# Altium footprint library SebastianAltiumClass.PcbLib: 8 footprints
Each footprint in its own frame and in the unit in brackets; x right, y up, seen from the top. Pads: shape width x height; smd on the part's side, far side on the other; paste and mask are expansions set on the pad; w line width, h text height; cw(c..) or ccw(c..) is an arc to the next point about the centre after c.
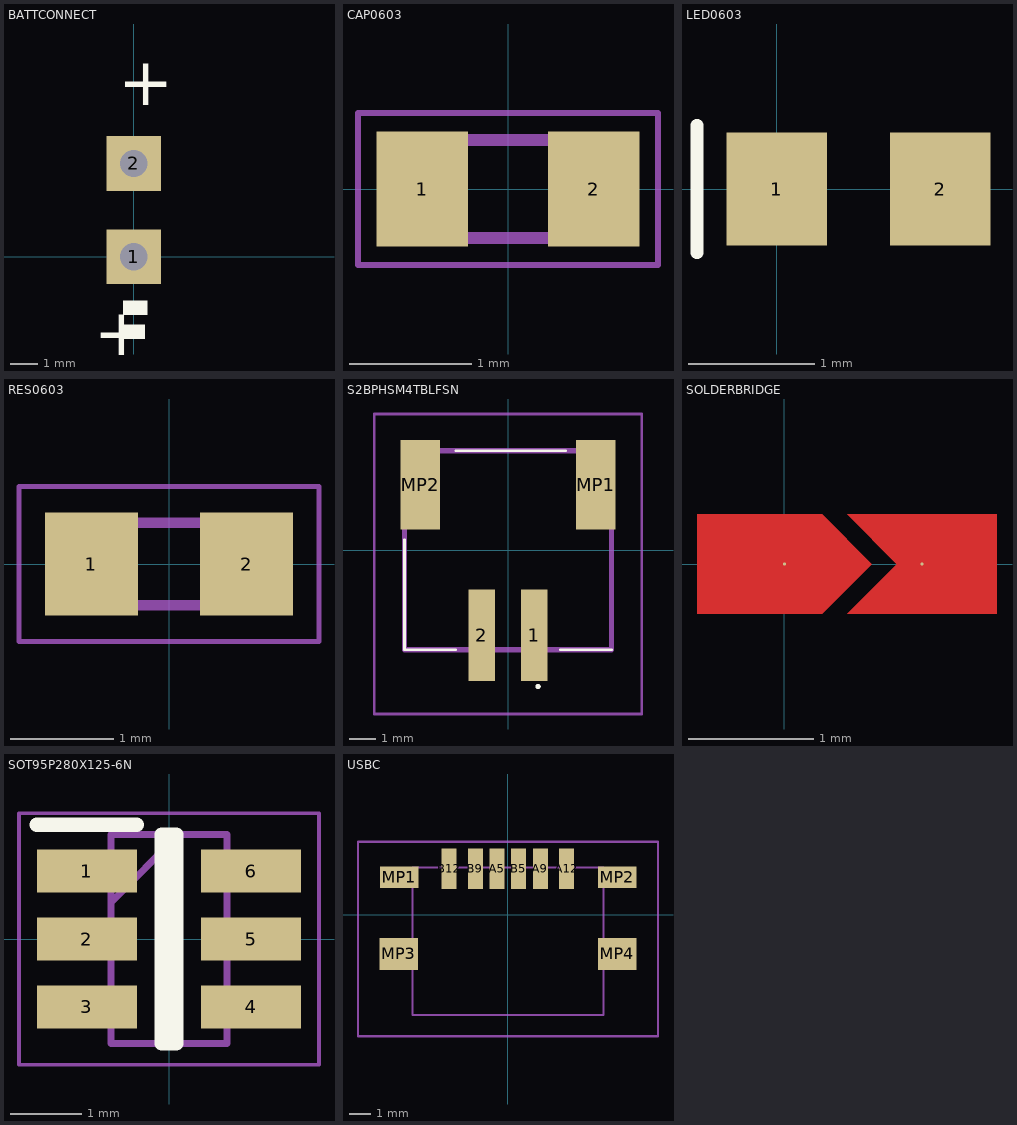
[diagram p0: the footprints below, top view; thin cyan lines are the x and y axes]

## BATTCONNECT [mm]
pads (2):
  rect 2x2 hole 1: 1(0,0) 2(0,3.4)
Top Overlay:
  rectangle: -0.4,-3 0.4,-2.467
  rectangle: -0.4,-2.132 0.5,-1.6
  text "+" at 0.567,-1.54 h3
  text "+" at -0.567,4.94 h3

## CAP0603 [mm]
pads (2):
  rect 0.75x0.94 smd: 1(-0.7,0) 2(0.7,0)
Mechanical 13:
  lines w0.1: -0.8,-0.4 -0.8,0.4 0.8,0.4 0.8,-0.4 -0.8,-0.4
Mechanical 15:
  lines w0.05: -1.225,-0.62 -1.225,0.62 1.225,0.62 1.225,-0.62 -1.225,-0.62
3D body "GCM188R71H104KA57J.stp": height 0.9, standoff 0, extent -0.8,-0.4 0.8,0.4

## LED0603 [mm]
pads (2):
  rect 0.8x0.9 smd: 1(0,0) 2(1.3,0)
Top Overlay:
  lines w0.1: -0.635,-0.508 -0.635,0.508
3D body "0603 Chip SMD LED (1.6x0.8mm).STEP": height 0.59, standoff 0.01, extent -0.128,-0.397 1.472,0.403

## RES0603 [mm]
pads (2):
  rect 0.9x1 smd: 1(-0.75,0) 2(0.75,0)
Mechanical 13:
  lines w0.1: -0.775,-0.4 0.775,-0.4 0.775,0.4 -0.775,0.4 -0.775,-0.4
Mechanical 15:
  lines w0.05: -1.45,-0.75 1.45,-0.75 1.45,0.75 -1.45,0.75 -1.45,-0.75
3D body "RMCF0603ZT0R00.stp": height 0.45, standoff 0, extent -0.774,-0.396 0.776,0.404

## S2BPHSM4TBLFSN [mm]
pads (4):
  rect 1x3.5 smd: 1(1,-3.25) 2(-1,-3.25)
  rect 1.5x3.4 smd: MP1(3.35,2.5) MP2(-3.35,2.5)
Top Overlay:
  lines w0.1: -3.95,0.4 -3.95,-3.8 -2,-3.8 ; -2,3.8 2.2,3.8 ; 2,-3.8 3.95,-3.8 ; 1.1,-5.2 ccw(c1.15,-5.2) 1.2,-5.2 ccw(c1.15,-5.2) 1.1,-5.2
Mechanical 13:
  lines w0.2: -3.95,-3.8 3.95,-3.8 3.95,3.8 -3.95,3.8 -3.95,-3.8
Mechanical 15:
  lines w0.1: -5.1,-6.25 -5.1,5.2 5.1,5.2 5.1,-6.25 -5.1,-6.25
3D body "S2B-PH-SM4-TB_LF__SN_.stp": height 5.6, standoff 0, extent -4,-4.4 3.9,4.2

## SOLDERBRIDGE [mil]
pads (2):
  round 1 smd: 1(0,0) 2(43.31,0)
Top Layer:
  region: 19.69,15.75 35.43,0 19.69,-15.75 66.93,-15.75 66.93,15.75
  region: 11.81,15.75 -27.56,15.75 -27.56,-15.75 11.81,-15.75 27.56,0

## SOT95P280X125-6N [mm]
pads (6):
  rect 1.4x0.6 smd: 1(-1.15,0.95) 2(-1.15,0) 3(-1.15,-0.95) 4(1.15,-0.95) 5(1.15,0) 6(1.15,0.95)
Top Overlay:
  lines w0.2: -1.85,1.6 -0.45,1.6 ; -0.1,-1.463 0.1,-1.463 0.1,1.463 -0.1,1.463 -0.1,-1.463
Mechanical 13:
  lines w0.1: -0.813,0.513 0.137,1.463 ; -0.813,-1.463 0.813,-1.463 0.813,1.463 -0.813,1.463 -0.813,-1.463
Mechanical 15:
  lines w0.05: -2.1,-1.763 2.1,-1.763 2.1,1.763 -2.1,1.763 -2.1,-1.763
3D body "TP4057-42-SOT26-R.stp": height 1.25, standoff 0, extent -1.4,-1.463 1.4,1.463

## USBC [mm]
pads (10):
  rect 0.7x1.9 smd: A5(-0.508,2.159) A9(1.512,2.159) A12(2.742,2.159) B5(0.492,2.159) B9(-1.528,2.159) B12(-2.758,2.159)
  rect 1.8x1 smd: MP1(-5.1,1.772) MP2(5.125,1.772)
  rect 1.8x1.5 smd: MP3(-5.125,-1.827) MP4(5.125,-1.827)
Mechanical 13:
  lines w0.1: -4.47,-4.678 4.47,-4.678 4.47,2.222 -4.47,2.222 -4.47,-4.678
Mechanical 15:
  lines w0.1: -7.025,-5.678 7.025,-5.678 7.025,3.427 -7.025,3.427 -7.025,-5.678
3D body "C2681548.step": height 3.18, standoff -0.09, extent -5.72,-4.62 5.72,2.28